# Altium integrated library MergenElektronik_Leds_SMDs.IntLib: 3 symbols
Pins are listed as number, name and electrical type; pins without a type are passive.

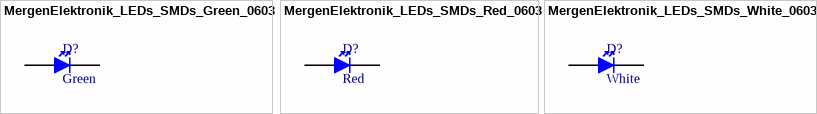
[diagram p0: symbols MergenElektronik_LEDs_SMDs_Green_0603 to MergenElektronik_LEDs_SMDs_White_0603]

## MergenElektronik_LEDs_SMDs_Green_0603
designator D?, comment Green
Mergen Elektronik - Leds - SMDs - Green - 0603; Manufacturer: Würth Elektronik; Manufacturer Number: 150060GS75000; Voltage Rated: 3.2V; Model: SMD Leds; Value: Green; Temperature: -45°C up to +85°C; Digi-Key Number: 732-4971-1-ND; Package: 0603(1608); Farnell Number: 2322070; Mouser Number: 710-150060GS75000; Mounting Type: Surface Mount; Color: Green; Özdisan Number: 150060GS75000; Supplier 1: Digi-Key; Supplier 2: Mouser; Supplier Part Number 1: 732-4971-6-ND; Supplier Part Number 2: 710-150060GS75000
footprint MergenElektronik_Leds_SMDs_0603_L (0603 Large)
footprint MergenElektronik_Leds_SMDs_0603_L_NS (0603 Large - No Silkscreen)
footprint MergenElektronik_Leds_SMDs_0603_M (0603 Medium)
footprint MergenElektronik_Leds_SMDs_0603_M_NS (0603 Medium - No Silckscreen)
footprint MergenElektronik_Leds_SMDs_0603_S (0603 Small)
footprint MergenElektronik_Leds_SMDs_0603_S_NS (0603 Small - No Silkscreen)
pins: 1 ANOT, 2 KATOT

## MergenElektronik_LEDs_SMDs_Red_0603
designator D?, comment Red
Mergen Elektronik - Leds - SMDs - Red - 0603; Manufacturer: Würth Elektronik; Manufacturer Number: 150060RS75000; Voltage Rated: 2V; Model: SMD Leds; Value: Red; Temperature: -45°C up to +85°C; Digi-Key Number: 732-4978-1-ND; Package: 0603(1608); Farnell Number: 2322071; Mouser Number: 710-150060RS75000; Mounting Type: Surface Mount; Color: Red; Özdisan Number: 150060RS75000; Supplier 1: Digi-Key; Supplier 2: Mouser; Supplier Part Number 1: 732-4978-1-ND; Supplier Part Number 2: 710-150060RS75000
footprint MergenElektronik_Leds_SMDs_0603_L (0603 Large)
footprint MergenElektronik_Leds_SMDs_0603_L_NS (0603 Large - No Silkscreen)
footprint MergenElektronik_Leds_SMDs_0603_M (0603 Medium)
footprint MergenElektronik_Leds_SMDs_0603_M_NS (0603 Medium - No Silckscreen)
footprint MergenElektronik_Leds_SMDs_0603_S (0603 Small)
footprint MergenElektronik_Leds_SMDs_0603_S_NS (0603 Small - No Silkscreen)
pins: 1 ANOT, 2 KATOT

## MergenElektronik_LEDs_SMDs_White_0603
designator D?, comment White
Mergen Elektronik - Leds - SMDs - White - 0603; Manufacturer: Harvatek Corporation; Manufacturer Number: B1931TW--20P000314U1930; Voltage Rated: 3.2V; Color: Red; Model: SMD Leds; Value: White; Temperature: -40°C up to +85°C; Digi-Key Number: 3147-B1931TW--20P000314U1930CT-ND; Package: 0603(1608); Mounting Type: Surface Mount; Supplier 1: Digi-Key; Supplier Part Number 1: 3147-B1931TW--20P000314U1930TR-ND
footprint MergenElektronik_Leds_SMDs_0603_L (0603 Large)
footprint MergenElektronik_Leds_SMDs_0603_L_NS (0603 Large - No Silkscreen)
footprint MergenElektronik_Leds_SMDs_0603_M (0603 Medium)
footprint MergenElektronik_Leds_SMDs_0603_M_NS (0603 Medium - No Silckscreen)
footprint MergenElektronik_Leds_SMDs_0603_S (0603 Small)
footprint MergenElektronik_Leds_SMDs_0603_S_NS (0603 Small - No Silkscreen)
pins: 1 ANOT, 2 KATOT